# EAGLE library part DG333ADW (library Vishay_By_element14_Batch_1)
Precision Quad SPDT Analog Switch
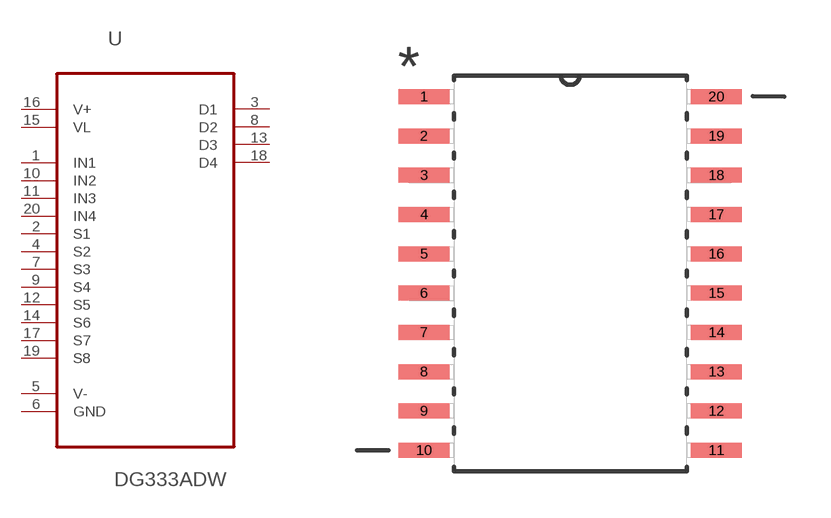
[diagram p22: symbol with the pads of SOIC127P1041X254-20N; footprint SOIC127P1041X254-20N]

Designator prefix U

## DG333ADW (MPN: DG333ADW; OC_FARNELL: 4605822; OC_NEWARK: 95B4256; PACKAGE: SOIC-20; SUPPLIER: Vishay)  [SOIC127P1041X254-20N]
1  IN1  in
2  S1  pas
3  D1  out
4  S2  pas
5  V-  pwr
6  GND  pas
7  S3  pas
8  D2  out
9  S4  pas
10  IN2  in
11  IN3  in
12  S5  pas
13  D3  out
14  S6  pas
15  VL  in
16  V+  pwr
17  S7  pas
18  D4  out
19  S8  pas
20  IN4  in

## Footprint SOIC127P1041X254-20N (pad centres in mm)
smd 1.651 x 0.483: 1 -4.724,5.715; 2 -4.724,4.445; 3 -4.724,3.175; 4 -4.724,1.905; 5 -4.724,0.635; 6 -4.724,-0.635; 7 -4.724,-1.905; 8 -4.724,-3.175; 9 -4.724,-4.445; 10 -4.724,-5.715; 11 4.724,-5.715; 12 4.724,-4.445; 13 4.724,-3.175; 14 4.724,-1.905; 15 4.724,-0.635; 16 4.724,0.635; 17 4.724,1.905; 18 4.724,3.175; 19 4.724,4.445; 20 4.724,5.715